# Altium footprint library jetson-orin-baseboard.PcbLib: 71 footprints (part 3 of 5)
Each footprint in its own frame and in the unit in brackets; x right, y up, seen from the top. Pads: shape width x height; smd on the part's side, far side on the other; paste and mask are expansions set on the pad; w line width, h text height; cw(c..) or ccw(c..) is an arc to the next point about the centre after c.
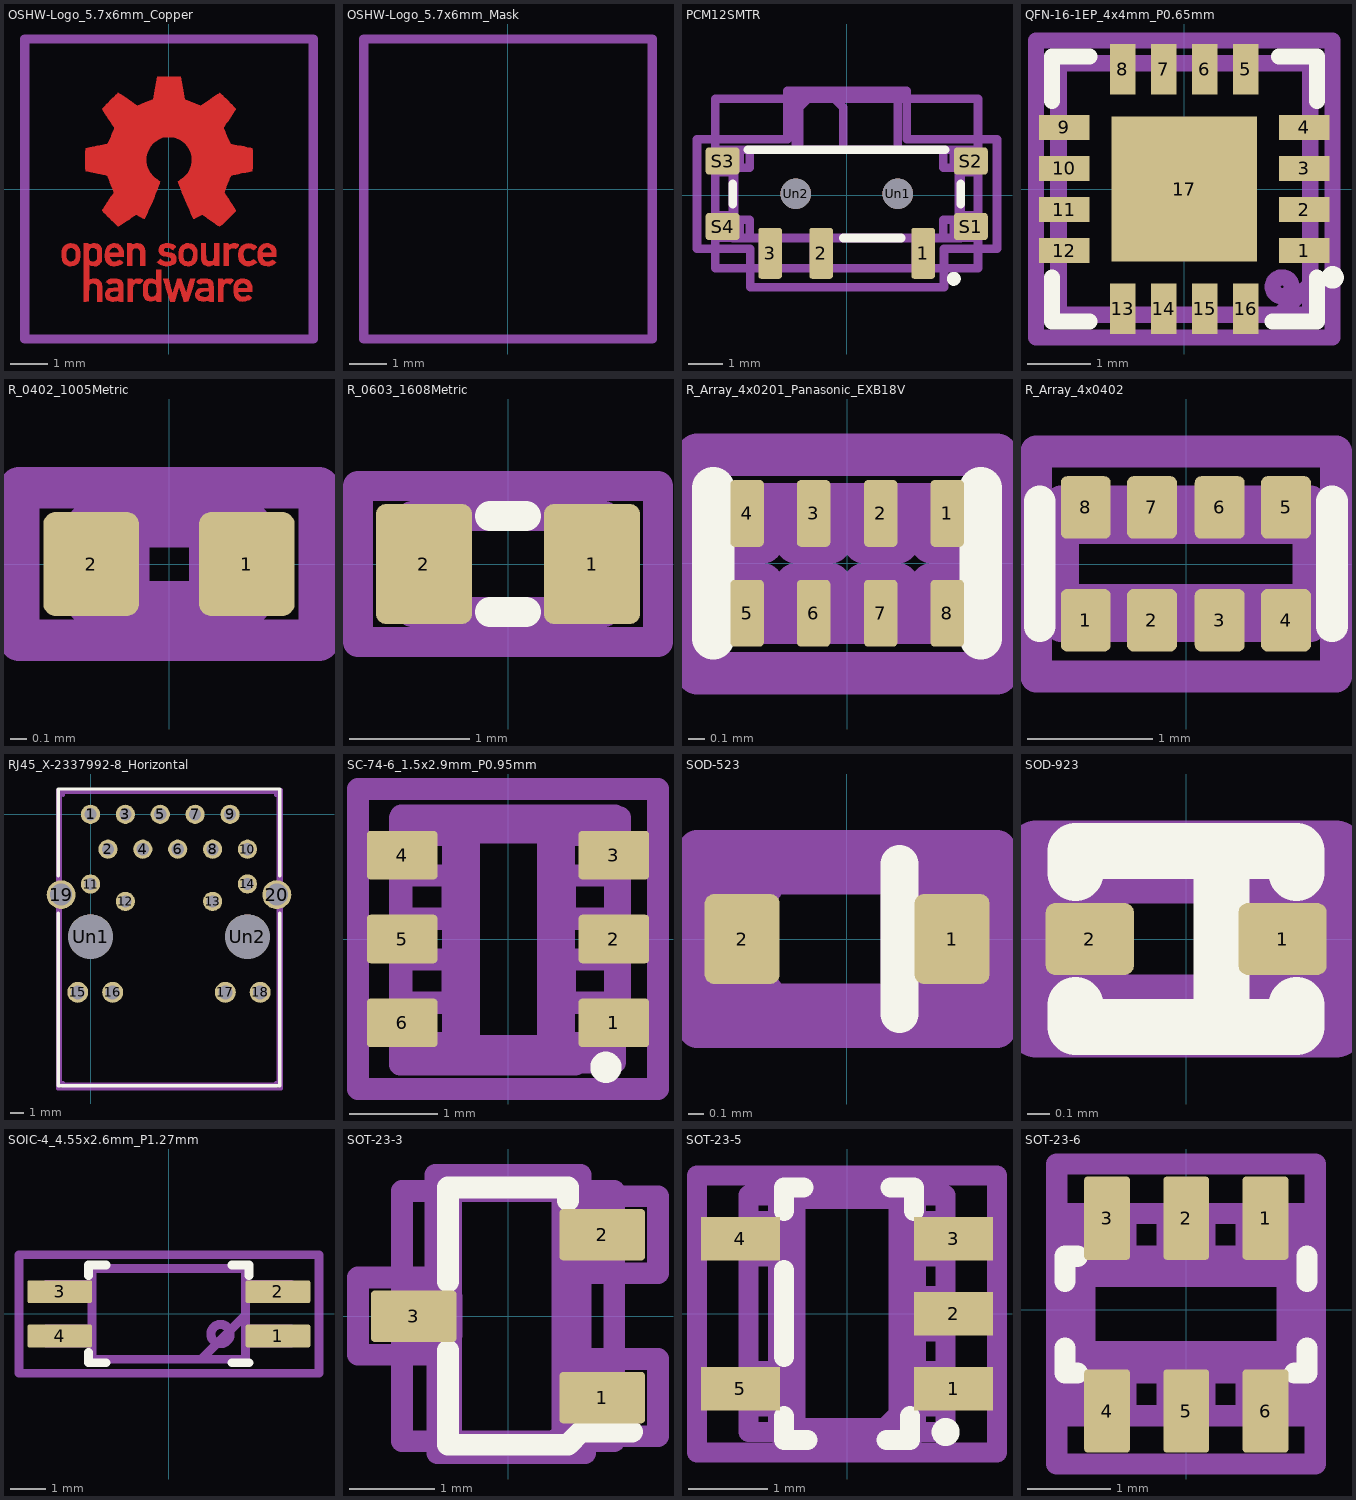
[diagram p2: the footprints below, top view; thin cyan lines are the x and y axes]

## OSHW-Logo_5.7x6mm_Copper [mm]
Top Layer:
  region: 1.799,-1.458 1.842,-1.471 1.87,-1.487 1.879,-1.501 1.877,-1.516 1.86,-1.541 1.847,-1.558 1.818,-1.59 1.797,-1.603 1.779,-1.602 1.726,-1.589 1.686,-1.589 1.654,-1.605 1.643,-1.614 1.609,-1.646 1.609,-2.062 1.471,-2.062 1.471,-1.458 1.54,-1.458 1.581,-1.46 1.603,-1.466 1.609,-1.477 1.612,-1.489 1.625,-1.488 1.644,-1.479 1.682,-1.463 1.712,-1.453 1.752,-1.451
  region: 1.683,-2.411 1.711,-2.425 1.74,-2.448 1.698,-2.5 1.673,-2.532 1.656,-2.547 1.639,-2.549 1.614,-2.542 1.602,-2.537 1.554,-2.531 1.51,-2.545 1.478,-2.575 1.472,-2.585 1.467,-2.611 1.462,-2.658 1.459,-2.724 1.458,-2.805 1.458,-2.817 1.458,-3.017 1.32,-3.017 1.32,-2.401 1.389,-2.401 1.429,-2.402 1.45,-2.407 1.457,-2.417 1.458,-2.427 1.458,-2.453 1.491,-2.427 1.529,-2.409 1.58,-2.401 1.635,-2.401
  region: -0.994,-2.403 -0.975,-2.408 -0.969,-2.421 -0.969,-2.426 -0.968,-2.442 -0.96,-2.444 -0.94,-2.433 -0.928,-2.426 -0.89,-2.411 -0.845,-2.403 -0.797,-2.402 -0.752,-2.408 -0.716,-2.419 -0.693,-2.436 -0.688,-2.456 -0.691,-2.461 -0.708,-2.484 -0.733,-2.512 -0.738,-2.517 -0.763,-2.538 -0.784,-2.544 -0.814,-2.54 -0.826,-2.536 -0.863,-2.529 -0.889,-2.532 -0.911,-2.544 -0.932,-2.56 -0.947,-2.58 -0.957,-2.608 -0.964,-2.648 -0.967,-2.703 -0.969,-2.778 -0.969,-2.823 -0.969,-3.017 -1.094,-3.017 -1.094,-2.401 -1.032,-2.401
  region: 1.358,-2.062 1.288,-2.062 1.247,-2.06 1.225,-2.054 1.219,-2.043 1.216,-2.033 1.201,-2.035 1.172,-2.049 1.106,-2.071 1.035,-2.069 0.968,-2.046 0.936,-2.027 0.911,-2.007 0.893,-1.981 0.881,-1.947 0.873,-1.901 0.869,-1.839 0.867,-1.757 0.867,-1.694 0.867,-1.458 0.993,-1.458 0.993,-1.654 0.994,-1.746 0.998,-1.816 1.007,-1.867 1.021,-1.901 1.042,-1.922 1.071,-1.933 1.106,-1.935 1.143,-1.932 1.171,-1.921 1.192,-1.9 1.206,-1.865 1.214,-1.813 1.218,-1.742 1.219,-1.654 1.219,-1.458 1.358,-1.458
  region: -0.755,-1.469 -0.723,-1.483 -0.693,-1.505 -0.67,-1.53 -0.653,-1.562 -0.642,-1.604 -0.634,-1.66 -0.631,-1.734 -0.63,-1.829 -0.629,-1.838 -0.629,-2.062 -0.768,-2.062 -0.768,-1.856 -0.768,-1.78 -0.768,-1.724 -0.77,-1.686 -0.774,-1.66 -0.78,-1.643 -0.788,-1.63 -0.801,-1.617 -0.844,-1.589 -0.89,-1.584 -0.935,-1.602 -0.95,-1.615 -0.962,-1.627 -0.97,-1.64 -0.975,-1.658 -0.979,-1.685 -0.981,-1.726 -0.981,-1.783 -0.981,-1.854 -0.981,-2.062 -1.12,-2.062 -1.12,-1.458 -1.05,-1.458 -1.009,-1.46 -0.988,-1.466 -0.981,-1.477 -0.978,-1.488 -0.966,-1.487 -0.94,-1.475 -0.883,-1.457 -0.818,-1.455
  region: 2.217,-1.463 2.29,-1.494 2.313,-1.509 2.342,-1.533 2.36,-1.551 2.363,-1.557 2.354,-1.57 2.331,-1.592 2.313,-1.608 2.262,-1.648 2.222,-1.615 2.191,-1.593 2.161,-1.586 2.127,-1.587 2.072,-1.601 2.034,-1.629 2.011,-1.675 2.001,-1.741 2.002,-1.814 2.016,-1.868 2.044,-1.905 2.063,-1.918 2.113,-1.933 2.167,-1.933 2.214,-1.918 2.225,-1.911 2.253,-1.892 2.275,-1.889 2.298,-1.903 2.324,-1.928 2.365,-1.97 2.32,-2.008 2.249,-2.05 2.17,-2.071 2.087,-2.07 2.032,-2.056 1.968,-2.022 1.918,-1.968 1.894,-1.93 1.876,-1.875 1.866,-1.806 1.866,-1.731 1.875,-1.659 1.894,-1.599 1.897,-1.592 1.939,-1.532 1.997,-1.488 2.066,-1.461 2.141,-1.453
  region: 0.61,-1.466 0.674,-1.5 0.724,-1.555 0.747,-1.599 0.757,-1.639 0.764,-1.695 0.766,-1.759 0.765,-1.824 0.76,-1.881 0.754,-1.911 0.734,-1.953 0.698,-1.997 0.655,-2.036 0.613,-2.061 0.612,-2.061 0.559,-2.072 0.497,-2.072 0.437,-2.062 0.415,-2.054 0.356,-2.021 0.313,-1.977 0.286,-1.919 0.27,-1.843 0.267,-1.803 0.267,-1.753 0.268,-1.697 0.285,-1.61 0.319,-1.542 0.369,-1.493 0.435,-1.463 0.449,-1.46 0.535,-1.452 hole: 0.521,-1.585 0.475,-1.595 0.439,-1.621 0.42,-1.641 0.409,-1.662 0.404,-1.69 0.402,-1.732 0.402,-1.753 0.406,-1.826 0.419,-1.882 0.44,-1.917 0.455,-1.928 0.493,-1.935 0.538,-1.933 0.577,-1.922 0.587,-1.917 0.614,-1.884 0.632,-1.834 0.64,-1.773 0.636,-1.708 0.628,-1.669 0.604,-1.623 0.566,-1.595
  region: 0.281,-2.404 0.331,-2.407 0.461,-2.797 0.481,-2.728 0.493,-2.685 0.51,-2.628 0.527,-2.564 0.536,-2.53 0.571,-2.401 0.714,-2.401 0.671,-2.536 0.65,-2.603 0.625,-2.683 0.598,-2.767 0.574,-2.841 0.52,-3.011 0.462,-3.015 0.404,-3.019 0.372,-2.914 0.353,-2.849 0.331,-2.778 0.313,-2.715 0.312,-2.712 0.298,-2.669 0.286,-2.64 0.277,-2.629 0.276,-2.631 0.269,-2.648 0.258,-2.684 0.242,-2.736 0.223,-2.798 0.213,-2.832 0.159,-3.017 0.043,-3.017 -0.05,-2.725 -0.076,-2.643 -0.099,-2.568 -0.12,-2.505 -0.135,-2.456 -0.145,-2.425 -0.148,-2.416 -0.146,-2.407 -0.127,-2.403 -0.088,-2.403 -0.082,-2.404 -0.008,-2.407 0.039,-2.584 0.057,-2.648 0.073,-2.704 0.085,-2.748 0.093,-2.774 0.095,-2.778 0.101,-2.773 0.113,-2.748 0.129,-2.705 0.15,-2.649 0.167,-2.599 0.231,-2.4
  region: -2.539,-1.465 -2.473,-1.494 -2.423,-1.542 -2.389,-1.61 -2.37,-1.698 -2.369,-1.712 -2.368,-1.808 -2.381,-1.893 -2.409,-1.962 -2.423,-1.984 -2.474,-2.031 -2.538,-2.061 -2.61,-2.073 -2.684,-2.067 -2.74,-2.047 -2.788,-2.014 -2.827,-1.971 -2.828,-1.97 -2.844,-1.943 -2.854,-1.916 -2.86,-1.882 -2.864,-1.834 -2.865,-1.794 -2.866,-1.759 -2.867,-1.716 -2.864,-1.658 -2.857,-1.614 -2.843,-1.579 -2.822,-1.548 -2.815,-1.539 -2.766,-1.494 -2.715,-1.467 -2.651,-1.456 -2.62,-1.455 hole: -2.638,-1.587 -2.678,-1.602 -2.713,-1.634 -2.734,-1.686 -2.74,-1.759 -2.739,-1.794 -2.735,-1.842 -2.727,-1.872 -2.713,-1.894 -2.699,-1.906 -2.652,-1.933 -2.603,-1.936 -2.557,-1.917 -2.534,-1.896 -2.518,-1.874 -2.508,-1.854 -2.504,-1.827 -2.503,-1.787 -2.505,-1.75 -2.508,-1.697 -2.512,-1.663 -2.52,-1.641 -2.534,-1.624 -2.544,-1.614 -2.589,-1.589
  region: -0.202,-3.017 -0.271,-3.017 -0.311,-3.016 -0.332,-3.011 -0.339,-3.001 -0.34,-2.994 -0.341,-2.979 -0.349,-2.976 -0.37,-2.985 -0.387,-2.994 -0.449,-3.013 -0.518,-3.014 -0.573,-3 -0.625,-2.964 -0.664,-2.912 -0.686,-2.851 -0.686,-2.848 -0.69,-2.81 -0.691,-2.756 -0.691,-2.716 -0.691,-2.695 -0.69,-2.662 -0.684,-2.58 -0.671,-2.519 -0.65,-2.474 -0.618,-2.44 -0.588,-2.421 -0.545,-2.407 -0.492,-2.402 -0.437,-2.406 -0.39,-2.418 -0.366,-2.432 -0.34,-2.455 -0.34,-2.162 -0.202,-2.162 hole: -0.464,-2.532 -0.505,-2.544 -0.535,-2.572 -0.538,-2.578 -0.547,-2.612 -0.553,-2.66 -0.554,-2.716 -0.551,-2.77 -0.543,-2.814 -0.534,-2.839 -0.496,-2.874 -0.452,-2.886 -0.407,-2.876 -0.368,-2.846 -0.354,-2.826 -0.345,-2.803 -0.341,-2.768 -0.34,-2.715 -0.342,-2.664 -0.346,-2.618 -0.353,-2.588 -0.354,-2.585 -0.381,-2.552 -0.42,-2.535
  region: 2.677,-1.456 2.71,-1.464 2.771,-1.492 2.824,-1.536 2.861,-1.589 2.866,-1.6 2.873,-1.631 2.877,-1.677 2.879,-1.723 2.879,-1.81 2.621,-1.81 2.569,-1.812 2.535,-1.817 2.518,-1.825 2.514,-1.839 2.52,-1.86 2.532,-1.884 2.566,-1.924 2.612,-1.944 2.668,-1.943 2.733,-1.922 2.788,-1.895 2.834,-1.931 2.88,-1.967 2.837,-2.007 2.779,-2.045 2.708,-2.068 2.632,-2.074 2.558,-2.063 2.546,-2.059 2.481,-2.025 2.433,-1.974 2.4,-1.906 2.382,-1.818 2.382,-1.816 2.38,-1.719 2.387,-1.685 2.396,-1.635 2.428,-1.564 2.474,-1.508 2.532,-1.471 2.601,-1.452 hole: 2.657,-1.578 2.616,-1.579 2.574,-1.598 2.539,-1.628 2.517,-1.666 2.514,-1.685 2.526,-1.69 2.558,-1.694 2.605,-1.697 2.69,-1.697 2.725,-1.695 2.743,-1.692 2.749,-1.685 2.748,-1.673 2.746,-1.669 2.724,-1.627 2.689,-1.593
  region: 0.014,-1.456 0.061,-1.465 0.111,-1.484 0.116,-1.486 0.153,-1.506 0.179,-1.524 0.188,-1.536 0.18,-1.555 0.16,-1.583 0.152,-1.594 0.116,-1.635 0.07,-1.608 0.027,-1.59 -0.023,-1.581 -0.072,-1.58 -0.109,-1.589 -0.118,-1.595 -0.135,-1.621 -0.137,-1.65 -0.124,-1.674 -0.117,-1.678 -0.094,-1.684 -0.054,-1.69 -0.005,-1.697 0.004,-1.698 0.082,-1.711 0.14,-1.734 0.178,-1.769 0.199,-1.818 0.205,-1.877 0.196,-1.945 0.167,-1.998 0.117,-2.036 0.046,-2.061 -0.032,-2.07 -0.096,-2.07 -0.147,-2.061 -0.183,-2.049 -0.227,-2.028 -0.269,-2.004 -0.283,-1.993 -0.321,-1.963 -0.276,-1.917 -0.23,-1.871 -0.178,-1.905 -0.127,-1.93 -0.071,-1.944 -0.018,-1.945 0.028,-1.935 0.06,-1.913 0.07,-1.894 0.068,-1.865 0.043,-1.842 -0.007,-1.826 -0.061,-1.819 -0.145,-1.805 -0.207,-1.779 -0.249,-1.74 -0.271,-1.687 -0.274,-1.625 -0.259,-1.559 -0.225,-1.51 -0.172,-1.476 -0.099,-1.458 -0.046,-1.454
  region: 2.032,-2.404 2.092,-2.42 2.143,-2.452 2.167,-2.476 2.207,-2.533 2.23,-2.599 2.238,-2.681 2.238,-2.687 2.238,-2.753 1.858,-2.753 1.866,-2.788 1.88,-2.819 1.906,-2.852 1.911,-2.857 1.957,-2.885 2.01,-2.89 2.07,-2.871 2.081,-2.866 2.112,-2.851 2.133,-2.843 2.137,-2.842 2.149,-2.85 2.174,-2.869 2.186,-2.879 2.212,-2.903 2.22,-2.919 2.215,-2.933 2.211,-2.937 2.19,-2.954 2.155,-2.975 2.131,-2.988 2.062,-3.009 1.985,-3.016 1.912,-3.008 1.892,-3.002 1.829,-2.968 1.782,-2.917 1.752,-2.846 1.737,-2.756 1.735,-2.709 1.74,-2.641 1.742,-2.61 1.764,-2.53 1.8,-2.471 1.852,-2.43 1.919,-2.408 1.956,-2.403 hole: 1.99,-2.524 1.942,-2.534 1.9,-2.561 1.87,-2.599 1.86,-2.641 1.872,-2.646 1.903,-2.65 1.949,-2.652 1.98,-2.653 2.035,-2.652 2.071,-2.65 2.09,-2.646 2.098,-2.639 2.099,-2.628 2.089,-2.594 2.061,-2.56 2.026,-2.535
  region: -1.357,-1.472 -1.345,-1.478 -1.301,-1.51 -1.26,-1.556 -1.23,-1.607 -1.221,-1.631 -1.213,-1.673 -1.208,-1.723 -1.208,-1.744 -1.208,-1.81 -1.588,-1.81 -1.579,-1.845 -1.56,-1.886 -1.525,-1.921 -1.483,-1.944 -1.457,-1.949 -1.421,-1.943 -1.379,-1.928 -1.364,-1.922 -1.311,-1.895 -1.265,-1.93 -1.239,-1.953 -1.225,-1.973 -1.224,-1.979 -1.236,-1.992 -1.264,-2.014 -1.289,-2.03 -1.356,-2.059 -1.432,-2.073 -1.506,-2.069 -1.566,-2.051 -1.627,-2.012 -1.671,-1.961 -1.698,-1.895 -1.711,-1.811 -1.712,-1.772 -1.708,-1.684 -1.707,-1.682 -1.693,-1.615 -1.667,-1.56 -1.634,-1.52 -1.575,-1.477 -1.505,-1.455 -1.43,-1.453 hole: -1.464,-1.579 -1.512,-1.59 -1.552,-1.622 -1.578,-1.667 -1.578,-1.669 -1.581,-1.682 -1.578,-1.69 -1.563,-1.695 -1.534,-1.697 -1.466,-1.697 -1.409,-1.696 -1.373,-1.694 -1.353,-1.689 -1.346,-1.681 -1.346,-1.678 -1.354,-1.658 -1.374,-1.629 -1.382,-1.619 -1.414,-1.591 -1.446,-1.58
  region: 1.038,-2.405 1.091,-2.418 1.106,-2.425 1.136,-2.442 1.159,-2.463 1.176,-2.488 1.187,-2.524 1.195,-2.571 1.2,-2.635 1.203,-2.719 1.204,-2.775 1.209,-3.017 1.138,-3.017 1.096,-3.016 1.074,-3.009 1.068,-2.999 1.065,-2.988 1.052,-2.99 1.034,-2.999 0.988,-3.013 0.93,-3.016 0.868,-3.01 0.813,-2.995 0.808,-2.993 0.758,-2.958 0.725,-2.909 0.71,-2.852 0.711,-2.831 0.713,-2.792 0.736,-2.735 0.767,-2.696 0.786,-2.679 0.804,-2.668 0.828,-2.662 0.863,-2.658 0.916,-2.655 0.937,-2.655 1.068,-2.65 1.068,-2.611 1.063,-2.569 1.045,-2.544 1.008,-2.528 1.007,-2.527 0.954,-2.521 0.902,-2.529 0.864,-2.549 0.849,-2.559 0.832,-2.558 0.807,-2.543 0.792,-2.533 0.763,-2.512 0.744,-2.495 0.742,-2.491 0.754,-2.467 0.789,-2.438 0.804,-2.428 0.848,-2.411 0.908,-2.402 0.974,-2.4 hole: 1.068,-2.753 1.007,-2.753 0.936,-2.757 0.886,-2.768 0.854,-2.788 0.847,-2.797 0.835,-2.831 0.846,-2.859 0.878,-2.879 0.93,-2.889 0.958,-2.891 1.005,-2.887 1.036,-2.873 1.043,-2.866 1.064,-2.83 1.068,-2.797
  region: -1.385,-2.406 -1.326,-2.422 -1.281,-2.45 -1.249,-2.488 -1.239,-2.504 -1.232,-2.521 -1.226,-2.542 -1.223,-2.572 -1.221,-2.615 -1.22,-2.674 -1.22,-2.753 -1.22,-2.774 -1.22,-3.017 -1.281,-3.017 -1.319,-3.015 -1.348,-3.008 -1.355,-3.004 -1.374,-2.996 -1.394,-3.004 -1.427,-3.013 -1.474,-3.016 -1.527,-3.015 -1.576,-3.008 -1.604,-3 -1.658,-2.965 -1.692,-2.916 -1.708,-2.851 -1.708,-2.85 -1.706,-2.821 -1.704,-2.779 -1.681,-2.723 -1.637,-2.681 -1.631,-2.677 -1.605,-2.665 -1.573,-2.657 -1.528,-2.654 -1.475,-2.653 -1.359,-2.653 -1.359,-2.604 -1.363,-2.566 -1.376,-2.541 -1.378,-2.539 -1.406,-2.528 -1.448,-2.524 -1.495,-2.526 -1.536,-2.534 -1.56,-2.546 -1.574,-2.556 -1.588,-2.558 -1.607,-2.55 -1.636,-2.53 -1.68,-2.497 -1.684,-2.493 -1.682,-2.482 -1.665,-2.462 -1.639,-2.441 -1.61,-2.423 -1.601,-2.418 -1.568,-2.41 -1.519,-2.404 -1.465,-2.401 -1.463,-2.401 hole: -1.359,-2.753 -1.428,-2.753 -1.494,-2.758 -1.544,-2.773 -1.575,-2.795 -1.585,-2.821 -1.574,-2.854 -1.557,-2.872 -1.522,-2.886 -1.476,-2.891 -1.429,-2.889 -1.392,-2.878 -1.382,-2.871 -1.363,-2.838 -1.359,-2.802
  region: -1.909,-1.469 -1.883,-1.482 -1.85,-1.505 -1.826,-1.529 -1.81,-1.561 -1.8,-1.603 -1.794,-1.66 -1.792,-1.736 -1.792,-1.768 -1.793,-1.84 -1.794,-1.891 -1.797,-1.927 -1.802,-1.951 -1.81,-1.969 -1.818,-1.981 -1.871,-2.033 -1.932,-2.065 -1.999,-2.074 -2.066,-2.06 -2.087,-2.051 -2.138,-2.024 -2.138,-2.44 -2.101,-2.42 -2.052,-2.406 -1.992,-2.402 -1.932,-2.409 -1.887,-2.425 -1.849,-2.455 -1.817,-2.498 -1.815,-2.502 -1.804,-2.523 -1.797,-2.544 -1.792,-2.569 -1.789,-2.603 -1.787,-2.65 -1.786,-2.714 -1.786,-2.787 -1.786,-3.017 -1.924,-3.017 -1.924,-2.592 -1.963,-2.559 -2.003,-2.533 -2.041,-2.529 -2.08,-2.541 -2.1,-2.553 -2.115,-2.57 -2.126,-2.595 -2.133,-2.633 -2.138,-2.687 -2.14,-2.761 -2.141,-2.81 -2.144,-3.011 -2.21,-3.015 -2.276,-3.019 -2.276,-1.77 -2.276,-1.458 -2.207,-1.458 -2.166,-1.46 -2.144,-1.466 -2.138,-1.477 -2.135,-1.488 -2.123,-1.487 -2.097,-1.475 -2.038,-1.456 -1.972,-1.454 hole: -2.052,-1.585 -2.081,-1.592 -2.109,-1.616 -2.128,-1.663 -2.137,-1.733 -2.138,-1.77 -2.135,-1.84 -2.123,-1.888 -2.101,-1.918 -2.066,-1.933 -2.031,-1.936 -1.992,-1.933 -1.966,-1.919 -1.949,-1.901 -1.936,-1.882 -1.929,-1.861 -1.925,-1.831 -1.925,-1.787 -1.926,-1.749 -1.929,-1.693 -1.933,-1.656 -1.94,-1.633 -1.95,-1.617 -1.96,-1.608 -2.002,-1.588
  region: 335 vertices and 0 holes, not listed, extent -2.24,-1.005 2.252,3.012
Mechanical 10:
  text "License: Apache-2.0" at -3.017,-8.052 h0.7
  text "'.Designator'" at -3.017,-5.519 h0.7
  text "Author: Antmicro" at -3.017,-6.736 h0.7
Mechanical 15:
  lines w0.254: -3.86,-4.02 -3.86,4.02 3.87,4.02 3.87,-4.02 -3.86,-4.02

## OSHW-Logo_5.7x6mm_Mask [mm]
Top Solder:
  drawing of 18 lines, arcs and shapes, not listed
Mechanical 10:
  text "'.Designator'" at -3.017,-5.519 h0.7
  text "License: Apache-2.0" at -3.017,-8.052 h0.7
  text "Author: Antmicro" at -3.017,-6.736 h0.7
Mechanical 15:
  lines w0.254: -3.86,-4.02 -3.86,4.02 3.87,4.02 3.87,-4.02 -3.86,-4.02

## PCM12SMTR [mm]
pads (9):
  rrect25% 0.7x1.5 smd mask+0: 1(2.25,-1.7) 2(-0.749,-1.7) 3(-2.248,-1.7)
  rrect25% 1x0.8 smd mask+0: S1(3.651,-0.915) S2(3.651,1.013) S3(-3.65,1.013) S4(-3.65,-0.915)
  round 0.9 hole 0.9 paste-2539.97 mask+0: Un1(1.502,0.049) Un2(-1.499,0.049)
Top Overlay:
  circle w0.254: c3.15,-2.45 r0.078
  region: 3.098,-2.387 3.09,-2.39 3.065,-2.45 3.087,-2.502 3.09,-2.51 3.15,-2.535 3.202,-2.513 3.21,-2.51 3.235,-2.45 3.213,-2.398 3.21,-2.39 3.15,-2.365
  lines w0.254: -3.349,-0.251 -3.349,0.348 ; -2.9,1.348 2.901,1.348 ; -0.1,-1.251 1.601,-1.251 ; 3.351,-0.251 3.351,0.348
Mechanical 1:
  lines w0.254: -2.462,-1.246 -2.462,-2.135 -2.057,-2.135 -2.057,-1.246 ; -1.397,1.344 -1.397,2.588 -1.141,2.844 -0.354,2.844 -0.1,2.588 -0.1,1.344 ; -0.964,-1.246 -0.964,-2.135 -0.558,-2.135 -0.558,-1.246 ; 2.034,-1.246 2.034,-2.135 2.439,-2.135 2.439,-1.246 ; 3.303,0.683 3.353,0.683 3.861,0.683 3.861,1.344 3.353,1.344 ; -3.352,-1.246 -3.148,-1.246 ; -3.352,-1.246 -3.352,-0.714 -3.301,-0.714 ; -3.352,-1.246 -3.86,-1.246 -3.86,-0.586 -3.352,-0.586 -3.301,-0.586 -3.301,-0.714 ; -3.352,1.344 -3.148,1.344 ; -3.352,1.344 -3.352,0.811 -3.301,0.811 ; -3.352,1.344 -3.86,1.344 -3.86,0.683 -3.352,0.683 -3.301,0.683 -3.301,0.811 ; -3.301,-0.714 -3.301,0.811 ; -3.301,-0.714 -3.148,-0.714 ; -3.301,0.811 -3.148,0.811 ; -3.148,-1.246 -2.844,-1.246 ; -3.148,-1.246 -3.148,-0.714 ; -3.148,-0.714 -2.844,-0.714 -2.844,-1.246 ; -3.148,0.811 -2.844,0.811 -2.844,1.344 ; -3.148,0.811 -3.148,1.344 ; -3.148,1.344 -2.844,1.344 ; -2.844,-1.246 2.845,-1.246 ; -2.844,1.344 2.845,1.344 ; 2.845,-1.246 3.151,-1.246 ; 2.845,-1.246 2.845,-0.714 3.151,-0.714 ; 2.845,1.344 3.151,1.344 ; 2.845,1.344 2.845,0.811 3.151,0.811 ; 3.151,-1.246 3.353,-1.246 ; 3.151,-1.246 3.151,-0.714 ; 3.151,-0.714 3.303,-0.714 ; 3.151,0.811 3.303,0.811 ; 3.151,0.811 3.151,1.344 ; 3.151,1.344 3.353,1.344 ; 3.303,-0.714 3.353,-0.714 3.353,-1.246 ; 3.303,-0.714 3.303,0.811 ; 3.303,-0.714 3.303,-0.586 3.353,-0.586 3.861,-0.586 3.861,-1.246 3.353,-1.246 ; 3.303,0.811 3.353,0.811 3.353,1.344
Mechanical 5:
  lines w0.254: -3.86,-2.135 -3.86,2.844 3.861,2.844 3.861,-2.135 -3.86,-2.135
Mechanical 11:
  lines w0.254: -1.499,1.348 1.502,1.348 ; -1.499,1.348 -1.499,2.849 1.502,2.849 1.502,1.348 ; -1.499,1.348 -3.349,1.348 -3.349,-1.251 3.351,-1.251 3.351,1.348 1.502,1.348
  text "'.Designator'" at 2.302,7.44 h0.7
  text "Author: Antmicro" at 2.302,8.623 h0.7
  text "License: Apache-2.0" at 2.302,9.706 h0.7
Mechanical 16:
  lines w0.254: -4.4,-1.57 -4.4,1.65 -1.74,1.65 -1.74,3.08 1.77,3.08 1.77,1.65 4.42,1.65 4.42,-1.57 2.86,-1.57 2.86,-2.7 -2.83,-2.7 -2.83,-1.57 -4.4,-1.57

## QFN-16-1EP_4x4mm_P0.65mm [mm]
pads (17):
  rect 0.8x0.4 smd mask+0: 1(1.9,-0.975) 2(1.9,-0.325) 3(1.9,0.325) 4(1.9,0.975) 9(-1.9,0.975) 10(-1.9,0.325) 11(-1.9,-0.325) 12(-1.9,-0.975)
  rect 0.4x0.8 smd mask+0: 5(0.975,1.9) 6(0.325,1.9) 7(-0.325,1.9) 8(-0.975,1.9) 13(-0.975,-1.9) 14(-0.325,-1.9) 15(0.325,-1.9) 16(0.975,-1.9)
  rect 2.3x2.3 smd mask+0: 17(0,0)
Top Overlay:
  circle w0.254: c2.35,-1.4 r0.05
  region: 2.312,-1.362 2.296,-1.4 2.312,-1.438 2.35,-1.454 2.388,-1.438 2.404,-1.4 2.388,-1.362 2.35,-1.346
  lines w0.254: -2.1,-1.401 -2.1,-2.101 -1.499,-2.101 ; -2.1,1.398 -2.1,2.1 -1.499,2.1 ; 1.4,-2.1 2.1,-2.1 2.101,-1.4 ; 1.5,2.1 2.101,2.1 2.101,1.398
Mechanical 1:
  circle w0.254: c1.55,-1.55 r0.15
  lines w0.254: -1.989,-1.125 -1.999,-1.125 -1.999,-0.826 -1.989,-0.826 ; -1.989,-0.476 -1.999,-0.476 -1.999,-0.176 -1.989,-0.176 ; -1.989,0.174 -1.999,0.174 -1.999,0.474 -1.989,0.474 ; -1.989,0.824 -1.999,0.824 -1.999,1.124 -1.989,1.124 ; -1.124,-1.99 -1.124,-2 -0.824,-2 -0.824,-1.99 ; -1.124,1.989 -1.124,1.999 -0.824,1.999 -0.824,1.989 ; -0.474,-1.99 -0.474,-2 -0.174,-2 -0.174,-1.99 ; -0.474,1.989 -0.474,1.999 -0.174,1.999 -0.174,1.989 ; 0.176,-1.99 0.176,-2 0.476,-2 0.476,-1.99 ; 0.176,1.989 0.176,1.999 0.476,1.999 0.476,1.989 ; 0.826,-1.99 0.826,-2 1.125,-2 1.125,-1.99 ; 0.826,1.989 0.826,1.999 1.125,1.999 1.125,1.989 ; 1.99,-1.125 2,-1.125 2,-0.826 1.99,-0.826 ; 1.99,-0.476 2,-0.476 2,-0.176 1.99,-0.176 ; 1.99,0.174 2,0.174 2,0.474 1.99,0.474 ; 1.99,0.824 2,0.824 2,1.124 1.99,1.124 ; -1.989,-1.99 -1.989,1.989 1.99,1.989 1.99,-1.99 -1.989,-1.99
Mechanical 5:
  lines w0.254: -1.999,-2 -1.999,1.999 2,1.999 2,-2 -1.999,-2
Mechanical 11:
  lines w0.254: 1.5,-2 2,-1.5 ; -2,-2 -2,2 2,2 2,-2 -2,-2
  text "Author: Antmicro" at 2.2,7.316 h0.7
  text "License: Apache-2.0" at 2.2,8.632 h0.7
  text "'.Designator'" at 2.2,6.099 h0.7
Mechanical 16:
  lines w0.254: -2.35,-2.35 -2.35,2.35 2.35,2.35 2.35,-2.35 -2.35,-2.35

## R_0402_1005Metric [mm]
pads (2):
  rrect25% 0.59x0.64 smd mask+0: 1(0.48,0) 2(-0.48,0)
Mechanical 1:
  lines w0.254: -0.248,-0.232 0.25,-0.232 ; -0.248,0.23 0.25,0.23 ; -0.498,-0.25 -0.498,0.248 -0.248,0.248 -0.248,-0.25 -0.498,-0.25 ; 0.25,-0.25 0.25,0.248 0.5,0.248 0.5,-0.25 0.25,-0.25
Mechanical 5:
  lines w0.254: -0.5,-0.25 -0.5,0.25 0.5,0.25 0.5,-0.25 -0.5,-0.25
Mechanical 11:
  lines w0.254: -0.5,-0.25 -0.5,0.25 0.5,0.25 0.5,-0.25 -0.5,-0.25
  text "Author: Antmicro" at 0.8,4.686 h0.7
  text "'.Designator'" at 0.8,3.668 h0.7
  text "License: Apache-2.0" at 0.8,5.802 h0.7
Mechanical 16:
  lines w0.254: -0.925,-0.47 -0.925,0.47 0.925,0.47 0.925,-0.47 -0.925,-0.47

## R_0603_1608Metric [mm]
pads (2):
  rrect20% 0.8x1 smd mask+0: 1(0.7,0) 2(-0.7,0)
Top Overlay:
  lines w0.254: -0.15,-0.4 0.15,-0.4 ; -0.15,0.4 0.15,0.4
Mechanical 1:
  lines w0.254: -0.498,-0.398 -0.8,-0.398 -0.8,0.396 -0.498,0.396 ; 0.5,-0.398 0.802,-0.398 0.802,0.396 0.5,0.396 ; -0.498,-0.402 0.5,-0.402 0.5,0.4 -0.498,0.4 -0.498,-0.402
Mechanical 5:
  lines w0.254: -0.8,-0.4 -0.8,0.4 0.8,0.4 0.8,-0.4 -0.8,-0.4
Mechanical 11:
  lines w0.254: -0.8,-0.4 -0.8,0.4 0.8,0.4 0.8,-0.4 -0.8,-0.4
  text "'.Designator'" at 1.1,4.398 h0.7
  text "Author: Antmicro" at 1.1,5.417 h0.7
  text "License: Apache-2.0" at 1.1,6.533 h0.7
Mechanical 16:
  lines w0.254: -1.25,-0.65 -1.25,0.65 1.25,0.65 1.25,-0.65 -1.25,-0.65

## R_Array_4x0201_Panasonic_EXB18V [mm]
pads (8):
  rrect25% 0.2x0.4 smd mask+0: 1(0.6,0.298) 2(0.202,0.298) 3(-0.2,0.298) 4(-0.598,0.298) 5(-0.598,-0.3) 6(-0.2,-0.3) 7(0.202,-0.3) 8(0.6,-0.3)
Top Overlay:
  lines w0.254: -0.8,-0.45 -0.8,0.45 ; 0.8,-0.45 0.8,0.45
Mechanical 1:
  lines w0.254: -0.709,-0.332 -0.747,-0.332 -0.747,0.33 -0.709,0.33 ; -0.506,-0.332 -0.303,-0.332 ; -0.506,0.33 -0.303,0.33 ; -0.101,-0.332 0.103,-0.332 ; -0.101,0.33 0.103,0.33 ; 0.305,-0.332 0.508,-0.332 ; 0.305,0.33 0.508,0.33 ; 0.711,-0.332 0.749,-0.332 0.749,0.33 0.711,0.33 ; -0.709,-0.356 -0.506,-0.356 -0.506,-0.127 -0.709,-0.127 -0.709,-0.356 ; -0.709,0.125 -0.506,0.125 -0.506,0.354 -0.709,0.354 -0.709,0.125 ; -0.303,-0.356 -0.101,-0.356 -0.101,-0.127 -0.303,-0.127 -0.303,-0.356 ; -0.303,0.125 -0.101,0.125 -0.101,0.354 -0.303,0.354 -0.303,0.125 ; 0.103,-0.356 0.305,-0.356 0.305,-0.127 0.103,-0.127 0.103,-0.356 ; 0.103,0.125 0.305,0.125 0.305,0.354 0.103,0.354 0.103,0.125 ; 0.508,-0.356 0.711,-0.356 0.711,-0.127 0.508,-0.127 0.508,-0.356 ; 0.508,0.125 0.711,0.125 0.711,0.354 0.508,0.354 0.508,0.125
Mechanical 5:
  lines w0.254: -0.747,-0.356 -0.747,0.354 0.749,0.354 0.749,-0.356 -0.747,-0.356
Mechanical 11:
  text "'.Designator'" at 0.901,3.7 h0.7
  text "Author: Antmicro" at 0.901,5.116 h0.7
  text "License: Apache-2.0" at 0.901,6.633 h0.7
Mechanical 16:
  lines w0.254: -0.898,-0.66 -0.898,0.65 0.898,0.65 0.898,-0.66 -0.898,-0.66

## R_Array_4x0402 [mm]
pads (8):
  rrect25% 0.4x0.5 smd mask+0: 1(-0.802,-0.45) 2(-0.272,-0.45) 3(0.27,-0.45) 4(0.8,-0.45) 5(0.8,0.452) 6(0.27,0.452) 7(-0.272,0.452) 8(-0.802,0.452)
Top Overlay:
  lines w0.254: -1.17,-0.498 -1.17,0.5 ; 1.167,-0.498 1.167,0.5
Mechanical 1:
  lines w0.254: -0.995,-0.293 -0.995,0.295 ; -0.995,-0.2 -1,-0.2 -1,-0.293 ; -0.995,0.202 -1,0.202 -1,0.295 ; -0.6,-0.298 -0.402,-0.298 ; -0.6,0.3 -0.402,0.3 ; -0.102,-0.298 0.1,-0.298 ; -0.102,0.3 0.1,0.3 ; 0.4,-0.298 0.598,-0.298 ; 0.4,0.3 0.598,0.3 ; 0.993,-0.293 0.993,0.295 ; 0.993,-0.2 0.998,-0.2 0.998,-0.293 ; 0.993,0.202 0.998,0.202 0.998,0.295 ; -1,-0.293 -1,-0.498 -0.6,-0.498 -0.6,-0.293 ; -1,-0.293 -0.99,-0.293 ; -1,0.295 -0.99,0.295 ; -1,0.295 -1,0.5 -0.6,0.5 -0.6,0.295 ; -0.99,-0.293 -0.6,-0.293 ; -0.99,-0.293 -0.982,-0.286 ; -0.99,-0.293 -0.99,0.295 ; -0.99,0.295 -0.982,0.288 ; -0.99,0.295 -0.6,0.295 ; -0.982,-0.286 0.98,-0.286 ; -0.982,-0.286 -0.982,0.288 ; -0.982,0.288 0.98,0.288 ; -0.6,-0.293 -0.402,-0.293 ; -0.6,0.295 -0.402,0.295 ; -0.402,-0.293 -0.402,-0.498 -0.102,-0.498 -0.102,-0.293 ; -0.402,-0.293 -0.102,-0.293 ; -0.402,0.295 -0.102,0.295 ; -0.402,0.295 -0.402,0.5 -0.102,0.5 -0.102,0.295 ; -0.102,-0.293 0.1,-0.293 ; -0.102,0.295 0.1,0.295 ; 0.1,-0.293 0.1,-0.498 0.4,-0.498 0.4,-0.293 ; 0.1,-0.293 0.4,-0.293 ; 0.1,0.295 0.4,0.295 ; 0.1,0.295 0.1,0.5 0.4,0.5 0.4,0.295 ; 0.4,-0.293 0.598,-0.293 ; 0.4,0.295 0.598,0.295 ; 0.598,-0.293 0.598,-0.498 0.998,-0.498 0.998,-0.293 ; 0.598,-0.293 0.988,-0.293 ; 0.598,0.295 0.988,0.295 ; 0.598,0.295 0.598,0.5 0.998,0.5 0.998,0.295 ; 0.98,-0.286 0.988,-0.293 ; 0.98,-0.286 0.98,0.288 ; 0.98,0.288 0.988,0.295 ; 0.988,-0.293 0.998,-0.293 ; 0.988,-0.293 0.988,0.295 ; 0.988,0.295 0.998,0.295
Mechanical 5:
  lines w0.254: -1,-0.498 -1,0.5 0.998,0.5 0.998,-0.498 -1,-0.498
Mechanical 10:
  lines w0.254: -1,-0.498 -1,0.5 0.998,0.5 0.998,-0.498 -1,-0.498
  text "Author: Antmicro" at -1.65,-5.017 h0.7
  text "License: Apache-2.0" at -1.65,-6.383 h0.7
  text "'.Designator'" at -1.65,-3.75 h0.7
Mechanical 15:
  lines w0.254: -1.2,-0.9 -1.2,0.9 1.2,0.9 1.2,-0.9 -1.2,-0.9

## RJ45_X-2337992-8_Horizontal [mil]
pads (22):
  round 55 hole 35 paste-99999 mask+0: 1(0,0) 2(49.96,-99.96) 3(99.96,0) 4(149.96,-99.96) 5(199.92,0) 6(249.96,-99.96) 7(299.92,0) 8(350,-99.96) 9(399.96,0) 10(449.96,-99.96) 11(0,-199.92) 12(99.96,-249.57) 13(350,-249.57) 14(449.96,-199.61)
  round 60 hole 40 paste-99999 mask+0: 15(-36.5,-510.16) 16(63.54,-510.16) 17(386.38,-510.16) 18(486.42,-510.16)
  round 82.68 hole 62.99 paste-99999 mask+0: 19(-84.09,-230.31)
  round 83 hole 63 paste-99999 mask+0: 20(533.98,-230.31)
  round 127.95 hole 127.95 paste-99999 mask+0: Un1(0,-350.39) Un2(449.96,-350.39)
Top Overlay:
  lines w10: -93.03,-284.13 -93.03,-778.39 542.95,-778.39 542.95,-284.13 ; -93.03,-176.38 -93.03,72.64 542.95,72.64 542.95,-176.38
Mechanical 1:
  drawing of 249 lines, arcs and shapes, not listed
Mechanical 5:
  lines w10: -92.56,-787.36 -92.56,63.03 545.2,63.03 545.2,-787.36 -92.56,-787.36
Mechanical 10:
  lines w10: -88.07,-773.39 -88.07,67.64 537.99,67.64 537.99,-773.39 -88.07,-773.39
  text "Author: Antmicro" at -110,-996.72 h27.56
  text "'.Designator'" at -110,-940.94 h27.56
  text "License: Apache-2.0" at -110,-1056.43 h27.56
Mechanical 15:
  lines w10: -94.49,-787.36 -94.49,70.87 547.24,70.87 547.24,-787.36 -94.49,-787.36

## SC-74-6_1.5x2.9mm_P0.95mm [mm]
pads (6):
  rrect15% 0.8x0.55 smd mask+0: 1(1.2,-0.95) 2(1.2,0) 3(1.2,0.95) 4(-1.2,0.95) 5(-1.2,0) 6(-1.2,-0.95)
Top Overlay:
  circle w0.254: c1.11,-1.454 r0.05
  region: 1.072,-1.416 1.056,-1.454 1.072,-1.492 1.11,-1.508 1.148,-1.492 1.164,-1.454 1.148,-1.416 1.11,-1.4
Mechanical 1:
  lines w0.254: -0.628,-1.182 -0.628,-1.397 ; -0.628,-0.724 -0.628,-0.232 ; -0.628,0.228 -0.628,0.72 ; -0.628,1.181 -0.628,1.395 ; 0.642,-1.182 0.642,-1.397 ; 0.642,-0.724 0.642,-0.232 ; 0.642,0.228 0.642,0.72 ; 0.642,1.181 0.642,1.395 ; -0.936,-1.182 -1.009,-1.182 -1.212,-1.182 -1.212,-0.724 -1.009,-0.724 -0.936,-0.724 ; -0.936,-1.182 -0.657,-1.182 -0.619,-1.182 -0.619,-0.724 -0.657,-0.724 -0.936,-0.724 ; -0.936,-1.182 -0.936,-0.724 ; -0.936,-0.232 -1.009,-0.232 -1.212,-0.232 -1.212,0.228 -1.009,0.228 -0.936,0.228 ; -0.936,-0.232 -0.657,-0.232 -0.619,-0.232 -0.619,0.228 -0.657,0.228 -0.936,0.228 ; -0.936,-0.232 -0.936,0.228 ; -0.936,0.72 -1.009,0.72 -1.212,0.72 -1.212,1.181 -1.009,1.181 -0.936,1.181 ; -0.936,0.72 -0.657,0.72 -0.619,0.72 -0.619,1.181 -0.657,1.181 -0.936,1.181 ; -0.936,0.72 -0.936,1.181 ; -0.936,0.72 -0.936,1.181 ; -0.628,-1.397 -0.443,-1.214 ; -0.628,-1.397 0.642,-1.397 ; -0.628,1.395 -0.443,1.211 ; -0.628,1.395 0.642,1.395 ; -0.443,-1.214 -0.443,1.211 ; -0.443,-1.214 0.457,-1.214 ; -0.443,1.211 0.457,1.211 ; 0.457,-1.214 0.642,-1.397 ; 0.457,-1.214 0.457,1.211 ; 0.457,1.211 0.642,1.395 ; 0.934,-1.182 0.655,-1.182 0.63,-1.182 0.63,-0.724 0.655,-0.724 0.934,-0.724 ; 0.934,-1.182 0.934,-0.724 ; 0.934,-1.182 1.009,-1.182 1.213,-1.182 1.213,-0.724 1.009,-0.724 0.934,-0.724 ; 0.934,-0.232 0.655,-0.232 0.63,-0.232 0.63,0.228 0.655,0.228 0.934,0.228 ; 0.934,-0.232 0.934,0.228 ; 0.934,-0.232 1.009,-0.232 1.213,-0.232 1.213,0.228 1.009,0.228 0.934,0.228 ; 0.934,0.72 0.655,0.72 0.63,0.72 0.63,1.181 0.655,1.181 0.934,1.181 ; 0.934,0.72 0.934,1.181 ; 0.934,0.72 1.009,0.72 1.213,0.72 1.213,1.181 1.009,1.181 0.934,1.181
Mechanical 5:
  lines w0.254: -1.212,-1.397 -1.212,1.395 1.213,1.395 1.213,-1.397 -1.212,-1.397
Mechanical 11:
  lines w0.254: -1.22,-1.422 -1.22,1.372 1.167,1.372 1.269,1.372 1.269,-0.915 0.76,-1.422 -1.22,-1.422
  text "'.Designator'" at 1.97,7.899 h0.7
  text "License: Apache-2.0" at 1.97,6.832 h0.7
  text "Author: Antmicro" at 1.97,5.516 h0.7
Mechanical 16:
  lines w0.254: -1.7,-1.7 -1.7,1.7 1.7,1.7 1.7,-1.7 -1.7,-1.7

## SOD-523 [mm]
pads (2):
  rrect25% 0.5x0.6 smd mask+0: 1(0.701,0) 2(-0.699,0)
Top Overlay:
  lines w0.254: 0.35,-0.5 0.35,0.5
Mechanical 1:
  lines w0.254: -0.552,-0.353 -0.601,-0.404 -0.65,-0.452 ; -0.552,0.351 -0.601,0.402 -0.65,0.45 ; 0.554,-0.353 0.603,-0.404 0.652,-0.452 ; 0.554,0.351 0.603,0.402 0.652,0.45 ; -0.65,-0.452 -0.65,-0.176 ; -0.65,-0.452 0.652,-0.452 ; -0.65,-0.176 -0.65,0.174 ; -0.65,-0.176 -0.848,-0.176 -0.848,0.174 -0.65,0.174 ; -0.65,0.174 -0.65,0.45 ; -0.65,0.45 0.652,0.45 ; 0.652,-0.452 0.652,-0.176 ; 0.652,-0.176 0.85,-0.176 0.85,0.174 0.652,0.174 ; 0.652,-0.176 0.652,0.174 ; 0.652,0.174 0.652,0.45 ; 0.402,-0.293 0.5,-0.293 0.5,0.291 0.402,0.291 0.402,-0.293
Mechanical 5:
  lines w0.254: -0.848,-0.452 -0.848,0.45 0.85,0.45 0.85,-0.452 -0.848,-0.452
Mechanical 11:
  lines w0.254: 0.35,-0.4 0.35,0.4 ; -0.65,-0.425 -0.65,0.423 0.652,0.423 0.652,-0.425 -0.65,-0.425
  text "License: Apache-2.0" at -8.839,5.267 h0.7
  text "'.Designator'" at -0.704,2.999 h0.7
  text "Author: Antmicro" at -7.009,4.183 h0.7
Mechanical 16:
  lines w0.254: -1,-0.6 -1,0.6 1,0.6 1,-0.6 -1,-0.6

## SOD-923 [mm]
pads (2):
  rrect25% 0.4x0.325 smd mask+0: 1(0.438,0) 2(-0.436,0)
Top Overlay:
  lines w0.254: -0.5,-0.3 -0.5,-0.4 0.5,-0.4 0.5,-0.3 ; -0.5,0.3 -0.5,0.4 0.5,0.4 0.5,0.3 ; 0.16,-0.4 0.16,0.4
Mechanical 1:
  lines w0.254: -0.423,-0.125 -0.423,-0.326 ; -0.423,0.123 -0.423,0.324 ; 0.425,-0.125 0.425,-0.326 ; 0.425,0.123 0.425,0.324 ; -0.423,-0.326 -0.387,-0.289 ; -0.423,-0.326 0.425,-0.326 ; -0.423,0.324 -0.387,0.287 ; -0.423,0.324 0.425,0.324 ; -0.387,-0.289 -0.387,0.287 ; -0.387,-0.289 0.234,-0.289 ; -0.387,0.287 0.234,0.287 ; 0.234,-0.289 0.234,0.287 ; 0.234,-0.289 0.325,-0.289 ; 0.234,0.287 0.325,0.287 ; 0.325,-0.289 0.325,0.287 ; 0.325,-0.289 0.389,-0.289 ; 0.325,0.287 0.389,0.287 ; 0.389,-0.289 0.389,0.287 ; 0.389,-0.289 0.425,-0.326 ; 0.389,0.287 0.425,0.324 ; -0.525,-0.125 -0.525,0.123 -0.41,0.123 -0.41,-0.125 -0.525,-0.125 ; 0.412,-0.125 0.412,0.123 0.527,0.123 0.527,-0.125 0.412,-0.125
Mechanical 5:
  lines w0.254: -0.525,-0.326 -0.525,0.324 0.527,0.324 0.527,-0.326 -0.525,-0.326
Mechanical 11:
  lines w0.254: 0.202,-0.3 0.202,0.298 ; -0.4,-0.3 -0.4,0.298 0.402,0.298 0.402,-0.3 -0.4,-0.3
  text "License: Apache-2.0" at 0.53,5.133 h0.7
  text "Author: Antmicro" at 0.53,6.217 h0.7
  text "'.Designator'" at 0.53,3.8 h0.7
Mechanical 16:
  lines w0.254: -0.68,-0.41 -0.68,0.41 0.68,0.41 0.68,-0.41 -0.68,-0.41

## SOIC-4_4.55x2.6mm_P1.27mm [mm]
pads (4):
  rrect15% 1.85x0.65 smd mask+0: 1(3.125,-0.635) 2(3.125,0.634) 3(-3.124,0.634) 4(-3.124,-0.635)
Top Overlay:
  lines w0.254: -2.3,-1.1 -2.3,-1.4 -1.8,-1.4 ; -2.3,1.1 -2.3,1.4 -1.8,1.4 ; 1.8,-1.4 2.3,-1.4 ; 1.8,1.4 2.3,1.4 2.3,1.1
  text "." at 2.502,-1.798 h1
Mechanical 1:
  drawing of 180 lines, arcs and shapes, not listed
Mechanical 11:
  lines w0.254: 0.931,-1.301 2.201,-0.03 ; -2.2,-1.301 -2.2,1.3 2.201,1.3 2.201,-1.301 -2.2,-1.301
  text "'.Designator'" at 2.284,3.75 h0.7
  text "Author: Antmicro" at -3.985,4.983 h0.7
  text "License: Apache-2.0" at -5.865,6.367 h0.7
Mechanical 16:
  lines w0.254: -4.29,-1.7 -4.29,1.69 4.3,1.69 4.3,-1.7 -4.29,-1.7

## SOT-23-3 [mm]
pads (3):
  rrect15% 1x0.6 smd mask+0: 1(1.1,-0.951) 2(1.1,0.949) 3(-1.1,-0.001)
Top Overlay:
  lines w0.254: -0.7,-0.4 -0.7,-1.5 0.7,-1.5 0.85,-1.35 1.45,-1.35 ; -0.7,0.4 -0.7,1.5 0.7,1.5 0.7,1.35
Mechanical 1:
  lines w0.254: -0.663,-0.221 -0.663,-1.447 -0.663,-1.449 -0.663,-1.451 -0.662,-1.451 -0.662,-1.453 -0.661,-1.453 -0.661,-1.455 ; -0.663,0.223 -0.663,1.448 -0.663,1.45 -0.663,1.452 -0.662,1.452 -0.662,1.454 -0.661,1.456 ; 0.637,-1.175 0.637,-1.447 0.636,-1.447 0.636,-1.449 0.636,-1.451 0.635,-1.451 0.635,-1.453 0.634,-1.453 0.634,-1.455 0.633,-1.455 ; 0.637,-0.729 0.637,0.731 ; 0.637,1.176 0.637,1.448 0.636,1.45 0.636,1.452 0.635,1.454 0.635,1.456 0.634,1.456 0.633,1.456 0.633,1.458 ; -0.66,-1.455 -0.659,-1.455 -0.659,-1.457 -0.658,-1.457 -0.657,-1.457 ; -0.661,-1.455 -0.66,-1.455 ; -0.66,1.456 -0.66,1.458 -0.659,1.458 -0.658,1.458 -0.657,1.46 ; -0.661,1.456 -0.66,1.456 ; -0.656,-1.457 -0.655,-1.457 -0.655,-1.459 -0.654,-1.459 -0.652,-1.459 ; -0.657,-1.457 -0.656,-1.457 ; -0.656,1.46 -0.655,1.46 -0.654,1.46 -0.652,1.46 ; -0.657,1.46 -0.656,1.46 ; -0.651,-1.459 0.624,-1.459 0.625,-1.459 0.627,-1.459 ; -0.652,-1.459 -0.651,-1.459 ; -0.651,1.46 0.624,1.46 0.625,1.46 0.627,1.46 ; -0.652,1.46 -0.651,1.46 ; 0.628,-1.459 0.629,-1.457 0.63,-1.457 0.631,-1.457 0.632,-1.457 0.632,-1.455 ; 0.627,-1.459 0.628,-1.459 ; 0.628,1.46 0.629,1.46 0.63,1.46 0.631,1.458 0.632,1.458 ; 0.627,1.46 0.628,1.46 ; 0.632,-1.455 0.633,-1.455 ; 0.632,1.458 0.633,1.458 ; -1.24,-0.221 -0.985,-0.221 -0.953,-0.221 -0.876,-0.221 -0.724,-0.221 -0.66,-0.221 -0.66,0.223 -0.724,0.223 -0.876,0.223 -0.953,0.223 -0.985,0.223 -1.24,0.223 -1.24,-0.221 ; 0.633,-1.175 0.633,-0.729 0.699,-0.729 0.85,-0.729 0.927,-0.729 0.959,-0.729 1.237,-0.729 1.237,-1.175 0.959,-1.175 0.927,-1.175 0.85,-1.175 0.699,-1.175 0.633,-1.175 ; 0.633,0.731 0.699,0.731 0.85,0.731 0.927,0.731 0.959,0.731 1.237,0.731 1.237,1.176 0.959,1.176 0.927,1.176 0.85,1.176 0.699,1.176 0.633,1.176 0.633,0.731
Mechanical 5:
  lines w0.254: -1.237,-1.46 -1.237,1.459 1.24,1.459 1.24,-1.46 -1.237,-1.46
Mechanical 11:
  lines w0.254: -0.688,-1.526 0.437,-1.526 0.712,-1.325 0.712,1.523 ; -0.688,-1.52 -0.688,1.519 0.712,1.519
  text "'.Designator'" at 1.987,3.467 h0.7
  text "Author: Antmicro" at 1.987,4.783 h0.7
  text "License: Apache-2.0" at 1.95,6.167 h0.7
Mechanical 16:
  lines w0.254: -1.75,-0.45 -1.75,0.45 -0.85,0.45 -0.85,1.65 0.85,1.65 0.85,1.4 1.75,1.4 1.75,0.5 0.85,0.5 0.85,-0.5 1.75,-0.5 1.75,-1.4 0.9,-1.4 0.9,-1.6 -0.825,-1.6 -0.825,-0.45 -1.75,-0.45

## SOT-23-5 [mm]
pads (5):
  rect 1x0.55 smd mask+0: 1(1.351,-0.951) 2(1.351,0) 3(1.351,0.949) 4(-1.35,0.949) 5(-1.35,-0.951)
Top Overlay:
  circle w0.254: c1.25,-1.5 r0.05
  region: 1.212,-1.462 1.196,-1.5 1.212,-1.538 1.25,-1.554 1.288,-1.538 1.304,-1.5 1.288,-1.462 1.25,-1.446
  lines w0.254: -0.8,-1.3 -0.8,-1.6 -0.5,-1.6 ; -0.8,-0.55 -0.8,0.55 ; -0.8,1.3 -0.8,1.599 -0.549,1.599 ; 0.5,-1.6 0.8,-1.6 0.8,-1.3 ; 0.55,1.6 0.85,1.6 0.85,1.301
Mechanical 1:
  lines w0.254: -0.7,-1.5 -0.7,-1.176 ; -0.7,-1.5 -0.652,-1.452 ; -0.7,-1.5 0.7,-1.5 ; -0.7,-1.176 -0.756,-1.176 -0.956,-1.176 -0.977,-1.176 -1.026,-1.176 -1.249,-1.176 -1.249,-0.725 -1.026,-0.725 -0.977,-0.725 -0.956,-0.725 -0.756,-0.725 -0.7,-0.725 ; -0.7,-1.176 -0.7,-0.725 ; -0.7,-0.725 -0.7,0.723 ; -0.7,0.723 -0.756,0.723 -0.956,0.723 -0.977,0.723 -1.026,0.723 -1.249,0.723 -1.249,1.175 -1.026,1.175 -0.977,1.175 -0.956,1.175 -0.756,1.175 -0.7,1.175 ; -0.7,0.723 -0.7,1.175 ; -0.7,1.175 -0.7,1.499 ; -0.7,1.499 0.7,1.499 ; -0.7,1.499 -0.652,1.451 ; -0.652,-1.452 -0.652,1.451 ; -0.652,-1.452 0.652,-1.452 ; -0.652,1.451 0.652,1.451 ; 0.652,-1.452 0.652,1.451 ; 0.652,-1.452 0.7,-1.5 ; 0.652,1.451 0.7,1.499 ; 0.7,-1.5 0.7,-1.176 ; 0.7,-1.176 0.7,-0.725 ; 0.7,-1.176 0.756,-1.176 0.956,-1.176 0.977,-1.176 1.027,-1.176 1.25,-1.176 1.25,-0.725 1.027,-0.725 0.977,-0.725 0.956,-0.725 0.756,-0.725 0.7,-0.725 ; 0.7,-0.725 0.7,-0.227 ; 0.7,-0.227 0.7,0.225 ; 0.7,-0.227 0.756,-0.227 0.956,-0.227 0.977,-0.227 1.027,-0.227 1.25,-0.227 1.25,0.225 1.027,0.225 0.977,0.225 0.956,0.225 0.756,0.225 0.7,0.225 ; 0.7,0.225 0.7,0.723 ; 0.7,0.723 0.7,1.175 ; 0.7,0.723 0.756,0.723 0.956,0.723 0.977,0.723 1.027,0.723 1.25,0.723 1.25,1.175 1.027,1.175 0.977,1.175 0.956,1.175 0.756,1.175 0.7,1.175 ; 0.7,1.175 0.7,1.499
Mechanical 5:
  lines w0.254: -1.249,-1.5 -1.249,1.499 1.25,1.499 1.25,-1.5 -1.249,-1.5
Mechanical 11:
  lines w0.254: 0.398,-1.526 0.874,-1.05 ; -0.874,-1.525 -0.874,1.523 0.873,1.523 0.873,-1.525 -0.874,-1.525
  text "'.Designator'" at -0.152,3.799 h0.7
  text "License: Apache-2.0" at -8.217,6.067 h0.7
  text "Author: Antmicro" at -6.387,4.982 h0.7
Mechanical 16:
  lines w0.254: -1.9,-1.76 -1.9,1.75 1.9,1.75 1.9,-1.76 -1.9,-1.76

## SOT-23-6 [mm]
pads (6):
  rrect15% 0.55x1 smd mask+0: 1(0.954,1.1) 2(0.003,1.1) 3(-0.947,1.1) 4(-0.947,-1.214) 5(0.003,-1.214) 6(0.954,-1.214)
Top Overlay:
  lines w0.254: -1.45,-0.457 -1.45,-0.757 -1.3,-0.757 ; -1.45,0.343 -1.45,0.643 -1.3,0.643 ; 1.3,-0.757 1.45,-0.757 1.45,-0.457 ; 1.45,0.343 1.45,0.643
  text "." at 1.818,1.538 h1
Mechanical 1:
  lines w0.254: -1.181,-0.686 -1.396,-0.686 ; -1.181,0.584 -1.396,0.584 ; -0.722,-0.686 -0.228,-0.686 ; -0.722,0.584 -0.228,0.584 ; 0.23,-0.686 0.724,-0.686 ; 0.23,0.584 0.724,0.584 ; 1.182,-0.686 1.397,-0.686 ; 1.182,0.584 1.397,0.584 ; -1.396,-0.686 -1.396,0.584 ; -1.396,-0.686 -1.211,-0.501 ; -1.396,0.584 -1.211,0.399 ; -1.211,-0.501 -1.211,0.399 ; -1.211,-0.501 1.214,-0.501 ; -1.211,0.399 1.214,0.399 ; -1.181,-0.992 -1.181,-0.713 -1.181,-0.677 -0.722,-0.677 -0.722,-0.713 -0.722,-0.992 ; -1.181,-0.992 -0.722,-0.992 ; -1.181,-0.992 -1.181,-1.067 -1.181,-1.271 -0.722,-1.271 -0.722,-1.067 -0.722,-0.992 ; -1.181,0.876 -1.181,0.952 -1.181,1.154 -0.722,1.154 -0.722,0.952 -0.722,0.876 ; -1.181,0.876 -1.181,0.597 -1.181,0.574 -0.722,0.574 -0.722,0.597 -0.722,0.876 ; -1.181,0.876 -0.722,0.876 ; -0.228,-0.992 -0.228,-0.713 -0.228,-0.677 0.23,-0.677 0.23,-0.713 0.23,-0.992 ; -0.228,-0.992 0.23,-0.992 ; -0.228,-0.992 -0.228,-1.067 -0.228,-1.271 0.23,-1.271 0.23,-1.067 0.23,-0.992 ; -0.228,0.876 -0.228,0.952 -0.228,1.154 0.23,1.154 0.23,0.952 0.23,0.876 ; -0.228,0.876 -0.228,0.597 -0.228,0.574 0.23,0.574 0.23,0.597 0.23,0.876 ; -0.228,0.876 0.23,0.876 ; 0.724,-0.992 0.724,-0.713 0.724,-0.677 1.182,-0.677 1.182,-0.713 1.182,-0.992 ; 0.724,-0.992 1.182,-0.992 ; 0.724,-0.992 0.724,-1.067 0.724,-1.271 1.182,-1.271 1.182,-1.067 1.182,-0.992 ; 0.724,0.876 0.724,0.952 0.724,1.154 1.182,1.154 1.182,0.952 1.182,0.876 ; 0.724,0.876 0.724,0.597 0.724,0.574 1.182,0.574 1.182,0.597 1.182,0.876 ; 0.724,0.876 1.182,0.876 ; 1.214,-0.501 1.214,0.399 ; 1.214,-0.501 1.397,-0.686 ; 1.214,0.399 1.397,0.584 ; 1.397,-0.686 1.397,0.584
Mechanical 5:
  lines w0.254: -1.396,-1.271 -1.396,1.154 1.397,1.154 1.397,-1.271 -1.396,-1.271
Mechanical 11:
  lines w0.254: -1.5,-0.757 -1.5,0.643 1.5,0.643 1.5,-0.757 -1.5,-0.757
  text "Author: Antmicro" at 1.679,5.767 h0.7
  text "'.Designator'" at 1.6,4.5 h0.7
  text "License: Apache-2.0" at 1.6,7.133 h0.7
Mechanical 16:
  lines w0.254: -1.55,-1.85 -1.55,1.75 1.55,1.75 1.55,-1.85 -1.55,-1.85